# Altium schematic symbol library Eink_Smartwatch.SchLib: 27 symbols
Pins are listed as number, name and electrical type; pins without a type are passive.

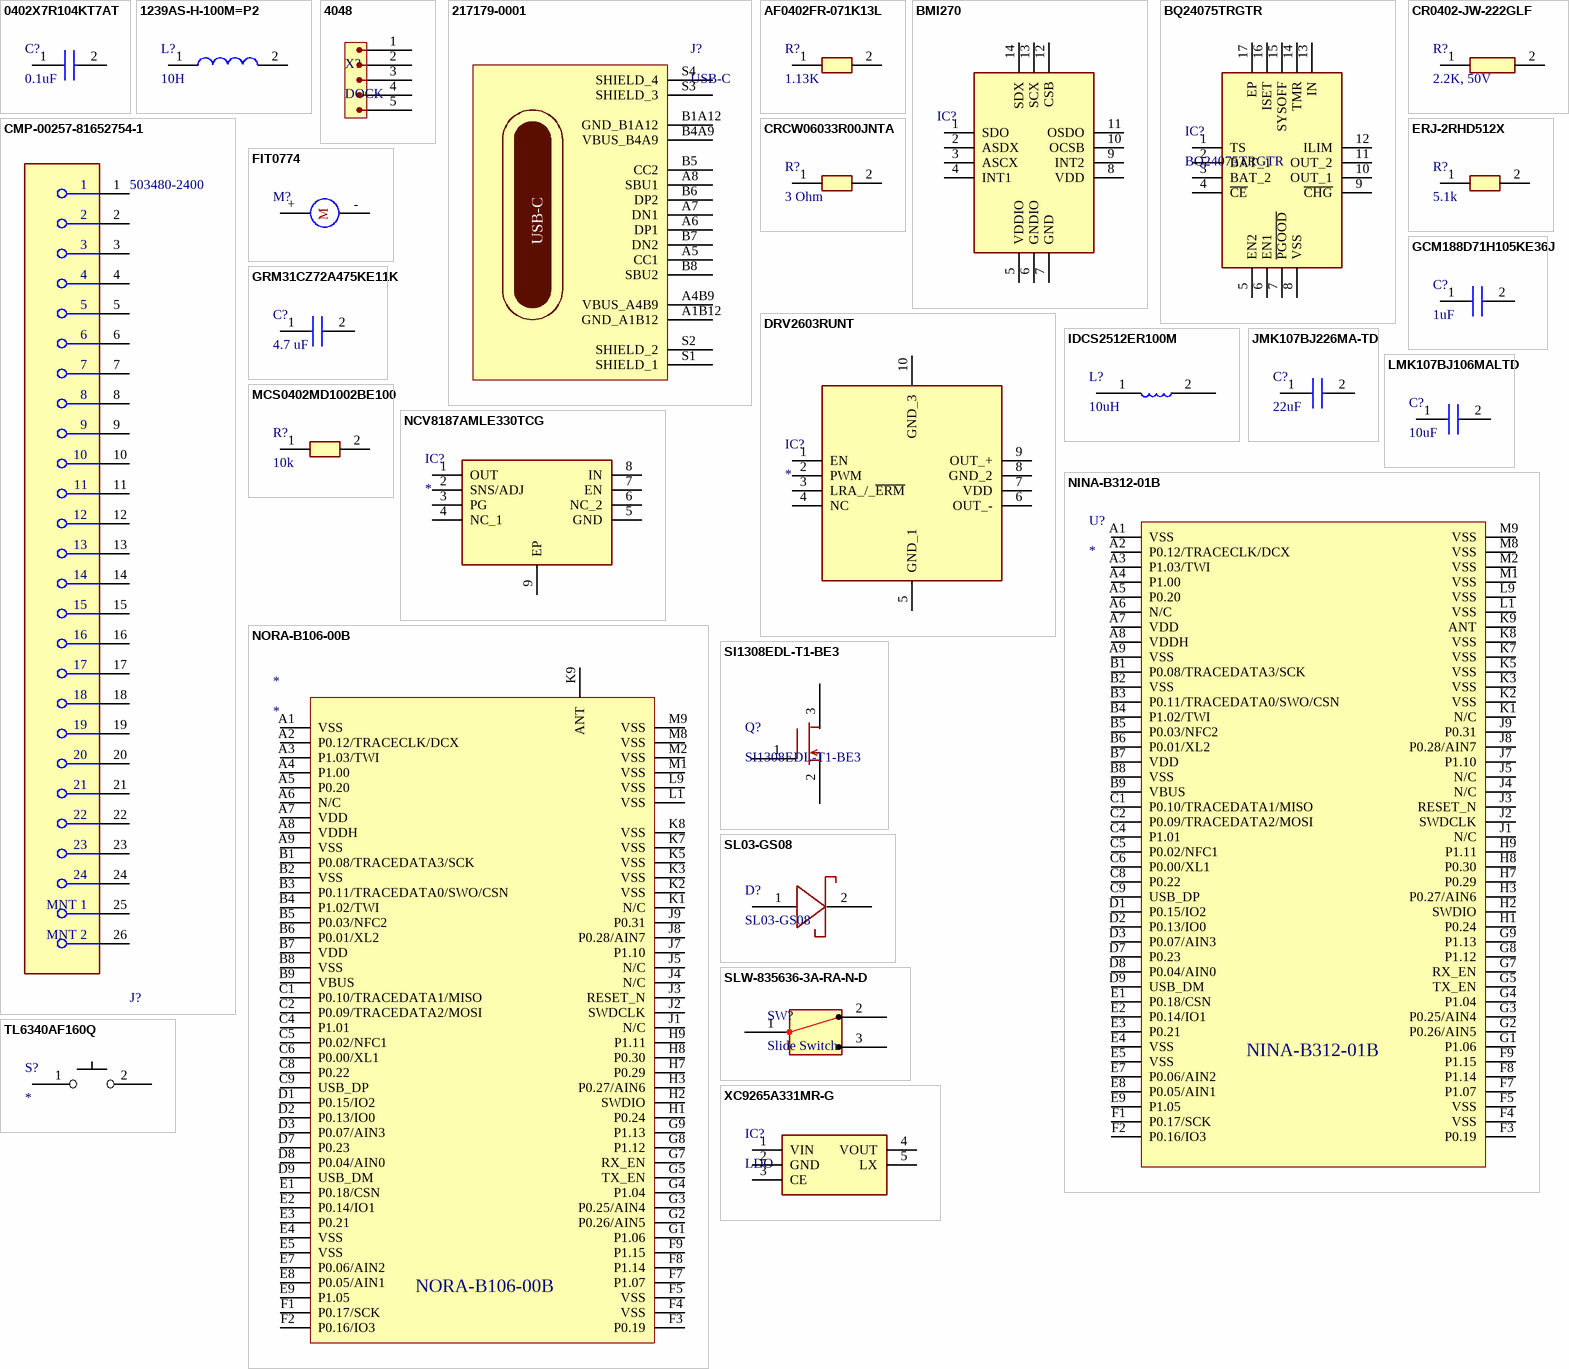
[diagram p0: symbols 0402X7R104KT7AT to XC9265A331MR-G]

## 0402X7R104KT7AT
designator C?, comment 0.1uF
Multilayer Ceramic Capacitors MLCC - SMD/SMT 16V 0.1uF X7R 10%; Manufacturer_Name: Kyocera AVX; Manufacturer_Part_Number: 0402X7R104KT7AT; Datasheet Link: https://www.mouser.es/datasheet/2/40/general_purpose-3169586.pdf; Height: 0.61mm; Mouser Part Number: 581-0402X7R104KT7AT; Mouser Price/Stock: https://www.mouser.co.uk/ProductDetail/KYOCERA-AVX/0402X7R104KT7AT?qs=DPoM0jnrROXD467pFR2ukA%3D%3D
footprint CAPC1005X61N
pins: 1, 2

## 1239AS-H-100M=P2
designator L?, comment 10H
Indutores de potência - SMD 10 UH 20%; Manufacturer_Name: Murata Electronics; Manufacturer_Part_Number: 1239AS-H-100M=P2; Datasheet Link: https://psearch.en.murata.com/inductor/product/1239AS-H-100M%23.html; Height: 1.2mm; Mouser Part Number: 81-1239AS-H-100MP2; Mouser Price/Stock: https://www.mouser.co.uk/ProductDetail/Murata-Electronics/1239AS-H-100M%3dP2?qs=KuGPmAKtFKWZyoO25uKvSg%3D%3D; Arrow Part Number: 1239AS-H-100M=P2; Arrow Price/Stock: https://www.arrow.com/en/products/1239as-h-100mp2/murata-manufacturing?region=nac
footprint DFE2HCAH1R0MJ0L
pins: 1, 2

## 4048
designator X?, comment DOCK
Mini SWD 0.05 Pitch Connector - 10 Pin SMT Box Header | Adafruit Industries 4048; Manufacturer Part Number: 4048; Supplier: Mouser; Supplier Part Number: 485-4048; Manufacturer: Adafruit Industries; RoHS: No; Category: Connectors; Stock: 723; Pricing: 1=1,95, 10=1,95, 50=1,95, 100=1,95, 1000=1,95, 10000=1,95 (USD); ComponentLink1URL: https://media.digikey.com/pdf/Data%20Sheets/Adafruit%20PDFs/4048_Web.pdf?src-supplier=Digikey; ComponentLink1Description: https://media.digikey.com/pdf/Data%20Sheets/Adafruit%20PDFs/4048_Web.pdf?src-supplier=Digikey
pins: 1, 2, 3, 4, 5

## 217179-0001
designator J?, comment USB-C
USB Connector, 16 Contact(s), Female, Right Angle, Surface Mount Terminal, Locking, Receptacle; Manufacturer: Molex; Manufacturer Part Number: 217179-0001; Supplier: Mouser; Supplier Part Number: 538-217179-0001; RoHS: No; Category: USB Connectors; Stock: 4841; Pricing: 1=0,9, 10=0,745, 50=0,745, 100=0,622, 1000=0,622, 10000=0,446 (USD)
pins: A1B12 GND_A1B12, A4B9 VBUS_A4B9, A5 CC1, A6 DP1, A7 DN1, A8 SBU1, B1A12 GND_B1A12, B4A9 VBUS_B4A9, B5 CC2, B6 DP2, B7 DN2, B8 SBU2, S1 SHIELD_1, S2 SHIELD_2, S3 SHIELD_3, S4 SHIELD_4

## AF0402FR-071K13L
designator R?, comment 1.13K
Fixed Resistor, Metal Glaze/thick Film, 0.0625W, 1130ohm, 50V, 1% +/-Tol, 100ppm/Cel, Surface Mount, 0402; Manufacturer: Yageo; Manufacturer Part Number: AF0402FR-071K13L; Additional Feature: ANTI-SULFUR; Power: 62.5mW; Rated Temperature: 70°C; Value: 1.13kR; Temperature Coefficient: 100ppm/°C; Package Height: 0.32mm; Package Length: 1mm; Package Width: 0.5mm; Reference Standard: AEC-Q200; Supplier: Mouser; Supplier Part Number: 603-AF0402FR-071K13L; RoHS: Yes; Category: Chip SMD Resistors; Stock: 3100; Pricing: 1=0,15, 10=0,037, 50=0,037, 100=0,02, 1000=0,012, 10000=0,006 (USD); Mounting Technology: Surface Mount; Pins: 2; Case/Package: 0402; Min Operating Temperature: -55°C; Max Operating Temperature: 155°C; Tolerance: 1%; Resistor Type: FIXED RESISTOR; Construction: Rectangular; Package Style: SMTMeter; Packaging: Tape and Reel; Termination: Wraparound; Working Voltage: 50V; Reach SVHC Compliant: Yes; RoHS Compliant: Yes; ComponentLink1URL: https://datasheet.ciiva.com:443/pdfs/VipMasterIC/IC/YAGO/YAGO-S-A0009016998/YAGO-S-A0009016998-1.pdf?src-supplier=IHS+Markit; ComponentLink1Description: https://datasheet.ciiva.com:443/pdfs/VipMasterIC/IC/YAGO/YAGO-S-A0009016998/YAGO-S-A0009016998-1.pdf?src-supplier=IHS+Markit; ComponentLink2URL: https://www.yageo.com/upload/media/product/productsearch/datasheet/rchip/PYu-AF_51_RoHS_L_6.pdf?src-supplier=Digikey; ComponentLink2Description: https://www.yageo.com/upload/media/product/productsearch/datasheet/rchip/PYu-AF_51_RoHS_L_6.pdf?src-supplier=Digikey
pins: 1, 2

## BMI270
designator IC?, comment IMU  (value not drawn)
IMUs - Inertial Measurement Units Smart Ultra-Low Power Inertial Measurement Unit (IMU) for Wearable Applications; Manufacturer_Name: BOSCH; Manufacturer_Part_Number: BMI270; Datasheet Link: https://www.bosch-sensortec.com/media/boschsensortec/downloads/datasheets/bst-bmi270-ds000.pdf; Height: 0.87mm; Mouser Part Number: 262-BMI270; Mouser Price/Stock: https://www.mouser.co.uk/ProductDetail/Bosch-Sensortec/BMI270?qs=u16ybLDytRYIj%252BjQEee88A%3D%3D; Arrow Part Number: BMI270; Arrow Price/Stock: https://www.arrow.com/en/products/bmi270/bosch?utm_currency=USD&region=nac
footprint BMI270
pins: 1 SDO, 2 ASDX, 3 ASCX, 4 INT1, 5 VDDIO, 6 GNDIO, 7 GND, 8 VDD, 9 INT2, 10 OCSB, 11 OSDO, 12 CSB, 13 SCX, 14 SDX

## BQ24075TRGTR
designator IC?
Gerenciadores de bateria 1.5A USB-Friendly Li Ion Batt Charger; Manufacturer_Name: Texas Instruments; Datasheet Link: http://componentsearchengine.com/Datasheets/1/BQ24075TRGTR.pdf; Height: 1mm; Manufacturer_Part_Number: BQ24075TRGTR; Mouser Part Number: 595-BQ24075TRGTR; Mouser Price/Stock: https://www.mouser.co.uk/ProductDetail/Texas-Instruments/BQ24075TRGTR?qs=%2Fqzd9s%252BcLd4uxZAT5jNskQ%3D%3D; Arrow Part Number: BQ24075TRGTR; Arrow Price/Stock: https://www.arrow.com/en/products/bq24075trgtr/texas-instruments?region=nac
footprint QFN50P300X300X100-17N-D
pins: 1 TS, 2 BAT_1, 3 BAT_2, 4 ~{CE}, 5 EN2, 6 EN1, 7 ~{PGOOD}, 8 VSS, 9 ~{CHG}, 10 OUT_1, 11 OUT_2, 12 ILIM, 13 IN, 14 TMR, 15 SYSOFF, 16 ISET, 17 EP

## CMP-00257-81652754-1
designator J?, comment 503480-2400
503480-2400 Molex 503480-2400 FFC & FPC Connectors, 0.5mm, FPC Ra Smt Dual Cont 24 Circuit,; Manufacturer Lifecycle Status: ACTIVE; NexarPartId: 81652754; Number of Contacts: 24; Voltage Rating: 50V; Plating: Gold; Current Rating: 500mA; Contact Plating: Gold; Mount: Surface Mount; Country of Origin: KR; Number of Rows: 1; Orientation: Right Angle; Lifecycle Status: Production; RoHS: Compliant; Min Operating Temperature: -40°C; Contact Material: Gold, Nickel; Max Operating Temperature: 85°C; Height: 2.07mm; Number of Circuits: 24
footprint FP-503480-2400-MFG
pins: 1, 2, 3, 4, 5, 6, 7, 8, 9, 10, 11, 12, 13, 14, 15, 16, 17, 18, 19, 20, 21, 22, 23, 24, 25 MNT 1, 26 MNT 2

## CR0402-JW-222GLF
designator R?, comment 2.2K, 50V
Thick Film Resistors - SMD 2.2K OHM 5%; Manufacturer_Name: Bourns; Manufacturer_Part_Number: CR0402-JW-222GLF; Datasheet Link: https://www.bourns.com/pdfs/CR0402.pdf; Height: 0.4mm; Mouser Part Number: 652-CR0402JW-222GLF; Mouser Price/Stock: https://www.mouser.co.uk/ProductDetail/Bourns/CR0402-JW-222GLF?qs=K5ddiUFZPT6h6bTSWuaUNg%3D%3D; Arrow Part Number: CR0402-JW-222GLF; Arrow Price/Stock: https://www.arrow.com/en/products/cr0402-jw-222glf/bourns?region=nac
footprint RESC1005X40N
pins: 1, 2

## CRCW06033R00JNTA
designator R?, comment 3 Ohm
Fixed Resistor, Metal Glaze/thick Film, 0.1W, 3ohm, 75V, 5% +/-Tol, 200ppm/Cel, Surface Mount, 0603; Manufacturer: Vishay Dale; Manufacturer Part Number: CRCW06033R00JNTA; Manufacturer Series: CRCW; Power: 100mW; Rated Temperature: 70°C; Value: 3R; Temperature Coefficient: 200ppm/°C; Package Height: 0.45mm; Package Length: 1.55mm; Package Width: 0.85mm; Reference Standard: AEC-Q200; Supplier: Mouser; Supplier Part Number: 71-CRCW0603J-3; RoHS: No; Category: Chip SMD Resistors; Stock: 24685; Pricing: 1=0,16, 10=0,111, 50=0,111, 100=0,042, 1000=0,018, 10000=0,013 (USD); Mounting Technology: Surface Mount; Pins: 2; Package Shape: Rectangular; Case/Package: 0603; Terminal Finish: Nickel; Min Operating Temperature: -55°C; Max Operating Temperature: 155°C; Tolerance: 5%; JESD-609 Code: e0; Resistor Type: FIXED RESISTOR; Construction: Chip; Package Style: SMTMeter; Packaging: Tape and Reel; Series: D/CRCW; Technology: METAL GLAZE/THICK FILM; Termination: Wraparound; Working Voltage: 75V; RoHS Compliant: No; Reach SVHC Compliant: No; ComponentLink1URL: https://datasheet.ciiva.com:443/pdfs/VipMasterIC/IC/VISH/VISH-S-A0002183699/VISH-S-A0002183699-1.pdf?src-supplier=IHS+Markit; ComponentLink1Description: https://datasheet.ciiva.com:443/pdfs/VipMasterIC/IC/VISH/VISH-S-A0002183699/VISH-S-A0002183699-1.pdf?src-supplier=IHS+Markit; ComponentLink2URL: https://datasheet.ciiva.com/2563/dcrcw-2563882.pdf?src-supplier=Digikey; ComponentLink2Description: https://datasheet.ciiva.com/2563/dcrcw-2563882.pdf?src-supplier=Digikey; ComponentLink3URL: https://datasheet.ciiva.com/9082/dcrcw-9082586.pdf?src-supplier=Avnet; ComponentLink3Description: https://datasheet.ciiva.com/9082/dcrcw-9082586.pdf?src-supplier=Avnet
pins: 1, 2

## DRV2603RUNT
designator IC?
Motor / Motion / Ignition Controllers & Drivers Haptic Driver w/Auto Resonance Tracking; Manufacturer_Name: Texas Instruments; Manufacturer_Part_Number: DRV2603RUNT; Datasheet Link: http://www.ti.com/lit/ds/symlink/drv2603.pdf; Height: 0.8mm; Mouser Part Number: 595-DRV2603RUNT; Mouser Price/Stock: https://www.mouser.co.uk/ProductDetail/Texas-Instruments/DRV2603RUNT?qs=y0LsnOHuQQ66fXxKAgGo4A%3D%3D; Arrow Part Number: DRV2603RUNT; Arrow Price/Stock: https://www.arrow.com/en/products/drv2603runt/texas-instruments
footprint QFN50P200X200X80-10N-D
pins: 1 EN, 2 PWM, 3 LRA_/_~{ERM}, 4 NC, 5 GND_1, 6 OUT_-, 7 VDD, 8 GND_2, 9 OUT_+, 10 GND_3

## ERJ-2RHD512X
designator R?, comment 5.1k
Fixed Resistor, Metal Glaze/thick Film, 0.063W, 5110ohm, 50V, 0.5% +/-Tol, 50ppm/Cel, Surface Mount, 0402; Manufacturer: Panasonic; Manufacturer Part Number: ERJ-2RHD512X; Manufacturer Series: ERJ2R; Power: 63mW; Rated Temperature: 70°C; Value: 5.11kR; Temperature Coefficient: 50ppm/°C; Supplier: Mouser; Supplier Part Number: 667-ERJ-2RHD512X; RoHS: Yes; Stock: 18329; Pricing: 1=0,13, 10=0,11, 50=0,11, 100=0,043, 1000=0,019, 10000=0,019 (USD); Mounting Technology: Surface Mount; Pins: 2; Package Shape: Rectangular; Case/Package: 0402; Terminal Finish: Tin; Min Operating Temperature: -55°C; Max Operating Temperature: 125°C; Tolerance: 0.5%; JESD-609 Code: e3; Resistor Type: FIXED RESISTOR; Packaging: Tape and Reel; Technology: METAL GLAZE/THICK FILM; Termination: Wraparound; Working Voltage: 50V; Reach SVHC Compliant: Yes; RoHS Compliant: Yes; ComponentLink1URL: https://datasheet.ciiva.com:443/pdfs/VipMasterCap/Capacitor/PANA/PANAS11022/PANAS11022-1.pdf?src-supplier=IHS+Markit; ComponentLink1Description: https://datasheet.ciiva.com:443/pdfs/VipMasterCap/Capacitor/PANA/PANAS11022/PANAS11022-1.pdf?src-supplier=IHS+Markit; ComponentLink2URL: https://datasheet.ciiva.com/24037/aoa0000ce2-24037669.pdf?src-supplier=Mouser; ComponentLink2Description: https://datasheet.ciiva.com/24037/aoa0000ce2-24037669.pdf?src-supplier=Mouser
pins: 1, 2

## FIT0774
designator M?
Mini Vibration Motor (10*2.7MM); Manufacturer: DFRobot; Manufacturer Part Number: FIT0774; Supplier: Mouser; Supplier Part Number: 426-FIT0774; RoHS: No; Category: Motors and Drives; Stock: 3316; Pricing: 1=0,99, 10=0,99, 50=0,99, 100=0,99, 1000=0,99, 10000=0,99 (USD)
pins: + 2, - 1
text: M

## GCM188D71H105KE36J
designator C?, comment 1uF
Capacitores de cerâmica multicamada MLCC - SMD/SMT 0603 50VDC X7T 1uF 10% AEC-Q200; Manufacturer: Murata; Manufacturer Part Number: GCM188D71H105KE36J; Supplier: Mouser; Supplier Part Number: 81-GCM188D71H105KE6J; RoHS: No; Category: Ceramic Capacitors; Stock: 8350; Pricing: 1=0,25, 10=0,101, 50=0,101, 100=0,059, 1000=0,051, 10000=0,039 (USD)
pins: 1, 2

## GRM31CZ72A475KE11K
designator C?, comment 4.7 uF
Capacitores de cerâmica multicamada MLCC - SMD/SMT 4.7 uF 100 VDC 10% 1206 X7R; Manufacturer_Name: Murata Electronics; Manufacturer_Part_Number: GRM31CZ72A475KE11K; Datasheet Link: https://search.murata.co.jp/Ceramy/image/img/A01X/G101/ENG/GRM31CZ72A475KE11-01A.pdf; Height: 1.15mm; Mouser Part Number: 81-GRM31CZ72A475K11K; Mouser Price/Stock: https://www.mouser.co.uk/ProductDetail/Murata-Electronics/GRM31CZ72A475KE11K?qs=d0WKAl%252BL4KZ8%252BL6wtNbppg%3D%3D
footprint GRM31x
pins: 1, 2

## IDCS2512ER100M
designator L?, comment 10uH
General Purpose Inductor, 10uH, 20%, 1 Element, Ferrite-Core, SMD, 2618; Manufacturer: Vishay Dale; Manufacturer Part Number: IDCS2512ER100M; Case/Size Code: 2618; DC Resistance (DCR): 75mR; Inductor Application: HIGH CURRENT INDUCTOR; Channels: 1; Max Current Rating: 1A; Shape/Size Description: RECTANGULAR PACKAGE; Shielding: Shielded; Test Frequency: 100kHz; Package Height: 2.92mm; Package Length: 6.6mm; Package Width: 4.45mm; Supplier: Mouser; Supplier Part Number: 70-IDCS2512ER100M; RoHS: Yes; Category: Fixed Inductors; Stock: 1073; Pricing: 1=1,24, 10=1,06, 50=1,06, 100=0,749, 1000=0,595, 10000=0,537 (USD); Pins: 2; Core Material: Ferrite; Terminal Finish: Nickel; Min Operating Temperature: -40°C; Max Operating Temperature: 125°C; Tolerance: 20%; JESD-609 Code: e4; Construction: Magnetically Shielded; Inductance-Nom (L): 10uH; Inductor Type: GENERAL PURPOSE INDUCTOR; Package Style: SMTMeter; Packaging: Tape and Reel; Surface Mount: Yes; Terminal Placement: Dual Ended; Termination: One Surface; Reach SVHC Compliant: Yes; RoHS Compliant: Yes; ComponentLink1URL: https://datasheet.ciiva.com:443/pdfs/VipMasterIC/IC/VISH/VISH-S-A0003083825/VISH-S-A0003083825-1.pdf?src-supplier=IHS+Markit; ComponentLink1Description: https://datasheet.ciiva.com:443/pdfs/VipMasterIC/IC/VISH/VISH-S-A0003083825/VISH-S-A0003083825-1.pdf?src-supplier=IHS+Markit; ComponentLink2URL: https://datasheet.ciiva.com/13283/idcs2512-73198-13283072.pdf?src-supplier=Mouser; ComponentLink2Description: https://datasheet.ciiva.com/13283/idcs2512-73198-13283072.pdf?src-supplier=Mouser; ComponentLink3URL: https://datasheet.ciiva.com/1074/idcs2512-1074163.pdf?src-supplier=Digikey; ComponentLink3Description: https://datasheet.ciiva.com/1074/idcs2512-1074163.pdf?src-supplier=Digikey
pins: 1, 2

## JMK107BJ226MA-TD
designator C?, comment 22uF
Capacitores de cerâmica multicamada MLCC - SMD/SMT 6.3V 22uF X5R 0603 20 %; Manufacturer_Name: TAIYO YUDEN; Manufacturer_Part_Number: JMK107BJ226MA-TD; Datasheet Link: https://ds.yuden.co.jp/TYCOMPAS/ut/download?pn=LMK063BBJ474MPLF&fileType=CA; Height: 0.9mm; Mouser Part Number: 963-JMK107BJ226MA-TD; Mouser Price/Stock: https://www.mouser.co.uk/ProductDetail/Taiyo-Yuden/JMK107BJ226MA-TD?qs=lkMpTOwszhdNQzwHcFE2kQ%3D%3D
footprint CAPC1608X90N
pins: 1, 2

## LMK107BJ106MALTD
designator C?, comment 10uF
Capacitores de cerâmica multicamada MLCC - SMD/SMT 10V 10uF X5R 0603 20 %; Manufacturer_Name: TAIYO YUDEN; Manufacturer_Part_Number: LMK107BJ106MALTD; Datasheet Link: https://ds.yuden.co.jp/TYCOMPAS/ut/download?pn=LMK063BBJ474MPLF&fileType=CA; Height: 0.9mm; Mouser Part Number: 963-LMK107BJ106MALTD; Mouser Price/Stock: https://www.mouser.co.uk/ProductDetail/TAIYO-YUDEN/LMK107BJ106MALTD?qs=PzICbMaShUde1djJr8Be9g%3D%3D; Arrow Part Number: LMK107BJ106MALTD; Arrow Price/Stock: https://www.arrow.com/en/products/lmk107bj106maltd/taiyo-yuden
footprint CAPC1608X90N
pins: 1, 2

## MCS0402MD1002BE100
designator R?, comment 10k
Resistores de Filme Fino - SMD .063W 10Kohms 0.1% 0402 25ppm Auto; Manufacturer_Name: Vishay; Manufacturer_Part_Number: MCS0402MD1002BE100; Datasheet Link: http://www.vishay.com/docs/28705/mcx0x0xpro.pdf; Height: 0.37mm; Mouser Part Number: 594-MCS0402MD1002BE1; Mouser Price/Stock: https://www.mouser.co.uk/ProductDetail/Vishay-Beyschlag/MCS0402MD1002BE100?qs=3SvaY9RawMIFge2HspqWnA%3D%3D; Arrow Part Number: MCS0402MD1002BE100; Arrow Price/Stock: https://www.arrow.com/en/products/mcs0402md1002be100/vishay?region=nac
footprint RESC1005X37N
pins: 1, 2

## NCV8187AMLE330TCG
designator IC?
LDO Voltage Regulators 1.2A LDO Regulator, Low Dropout Voltage, Low Noise with Power Good Output flipped die, 3V3, active discharge; Manufacturer_Name: onsemi; Manufacturer_Part_Number: NCV8187AMLE330TCG; Datasheet Link: https://www.onsemi.com/pdf/datasheet/ncv8187-d.pdf; Height: 1mm; Mouser Part Number: 863-CV8187AMLE330TCG; Mouser Price/Stock: https://www.mouser.co.uk/ProductDetail/onsemi/NCV8187AMLE330TCG?qs=HBWAp0VN4RhK8HbhfCLXcQ%3D%3D; Arrow Part Number: NCV8187AMLE330TCG; Arrow Price/Stock: https://www.arrow.com/en/products/ncv8187amle330tcg/on-semiconductor?region=nac
footprint SON65P300X300X100-9N-D
pins: 1 OUT, 2 SNS/ADJ, 3 PG, 4 NC_1, 5 GND, 6 NC_2, 7 EN, 8 IN, 9 EP

## NINA-B312-01B
designator U?
NINA-B30 Series 3.6 V -100 dBm Stand-Alone Bluetooth 5 Low Energy Module; Manufacturer: u-blox; Manufacturer Part Number: NINA-B312-01B; Supplier: Mouser; Supplier Part Number: 377-NINA-B312-01B; RoHS: No; Stock: 948; Pricing: 1=15,78, 10=14,2, 50=12,79, 100=11,51, 1000=11,51, 10000=11,51 (USD)
pins: A1 VSS, A2 P0.12/TRACECLK/DCX, A3 P1.03/TWI, A4 P1.00, A5 P0.20, A6 N/C, A7 VDD, A8 VDDH, A9 VSS, B1 P0.08/TRACEDATA3/SCK, B2 VSS, B3 P0.11/TRACEDATA0/SWO/CSN, B4 P1.02/TWI, B5 P0.03/NFC2, B6 P0.01/XL2, B7 VDD, B8 VSS, B9 VBUS, C1 P0.10/TRACEDATA1/MISO, C2 P0.09/TRACEDATA2/MOSI, C4 P1.01, C5 P0.02/NFC1, C6 P0.00/XL1, C8 P0.22, C9 USB_DP, D1 P0.15/IO2, D2 P0.13/IO0, D3 P0.07/AIN3, D7 P0.23, D8 P0.04/AIN0, D9 USB_DM, E1 P0.18/CSN, E2 P0.14/IO1, E3 P0.21, E4 VSS, E5 VSS, E7 P0.06/AIN2, E8 P0.05/AIN1, E9 P1.05, F1 P0.17/SCK, F2 P0.16/IO3, F3 P0.19, F4 VSS, F5 VSS, F7 P1.07, F8 P1.14, F9 P1.15, G1 P1.06, G2 P0.26/AIN5, G3 P0.25/AIN4, G4 P1.04, G5 TX_EN, G7 RX_EN, G8 P1.12, G9 P1.13, H1 P0.24, H2 SWDIO, H3 P0.27/AIN6, H7 P0.29, H8 P0.30, H9 P1.11, J1 N/C, J2 SWDCLK, J3 RESET_N, J4 N/C, J5 N/C, J7 P1.10, J8 P0.28/AIN7, J9 P0.31, K1 N/C, K2 VSS, K3 VSS, K5 VSS, K7 VSS, K8 VSS, K9 ANT, L1 VSS, L9 VSS, M1 VSS, M2 VSS, M8 VSS, M9 VSS

## NORA-B106-00B
designator *
Bluetooth Modules - 802.15.1 nRF5340, PCB antenna, open CPU; Manufacturer: u-blox; Manufacturer Part Number: NORA-B106-00B; Supplier: Mouser; Supplier Part Number: 377-NORA-B106-00B; RoHS: No; Category: LDO; Stock: 4440; Pricing: 1=14, 10=12,74, 50=11,72, 100=10,9, 1000=10,9, 10000=10,9 (USD); ComponentLink1URL: https://datasheet.octopart.com/NORA-B106-00B-u-blox-datasheet-166811452.pdf?src-supplier=TME; ComponentLink1Description: https://datasheet.octopart.com/NORA-B106-00B-u-blox-datasheet-166811452.pdf?src-supplier=TME
pins: A1 VSS, A2 P0.12/TRACECLK/DCX, A3 P1.03/TWI, A4 P1.00, A5 P0.20, A6 N/C, A7 VDD, A8 VDDH, A9 VSS, B1 P0.08/TRACEDATA3/SCK, B2 VSS, B3 P0.11/TRACEDATA0/SWO/CSN, B4 P1.02/TWI, B5 P0.03/NFC2, B6 P0.01/XL2, B7 VDD, B8 VSS, B9 VBUS, C1 P0.10/TRACEDATA1/MISO, C2 P0.09/TRACEDATA2/MOSI, C4 P1.01, C5 P0.02/NFC1, C6 P0.00/XL1, C8 P0.22, C9 USB_DP, D1 P0.15/IO2, D2 P0.13/IO0, D3 P0.07/AIN3, D7 P0.23, D8 P0.04/AIN0, D9 USB_DM, E1 P0.18/CSN, E2 P0.14/IO1, E3 P0.21, E4 VSS, E5 VSS, E7 P0.06/AIN2, E8 P0.05/AIN1, E9 P1.05, F1 P0.17/SCK, F2 P0.16/IO3, F3 P0.19, F4 VSS, F5 VSS, F7 P1.07, F8 P1.14, F9 P1.15, G1 P1.06, G2 P0.26/AIN5, G3 P0.25/AIN4, G4 P1.04, G5 TX_EN, G7 RX_EN, G8 P1.12, G9 P1.13, H1 P0.24, H2 SWDIO, H3 P0.27/AIN6, H7 P0.29, H8 P0.30, H9 P1.11, J1 N/C, J2 SWDCLK, J3 RESET_N, J4 N/C, J5 N/C, J7 P1.10, J8 P0.28/AIN7, J9 P0.31, K1 N/C, K2 VSS, K3 VSS, K5 VSS, K7 VSS, K8 VSS, K9 ANT, L1 VSS, L9 VSS, M1 VSS, M2 VSS, M8 VSS, M9 VSS

## SI1308EDL-T1-BE3
designator Q?
Transistor MOSFET N-Channel 30V 1.4A 3-Pin SOT-323; Manufacturer: Vishay; Supplier: Mouser; Supplier Part Number: 78-SI1308EDL-T1-BE3; Manufacturer Part Number: SI1308EDL-T1-BE3; RoHS: No; Stock: 79433; Pricing: 1=0,4, 10=0,276, 50=0,276, 100=0,172, 1000=0,129, 10000=0,098 (USD); ComponentLink1URL: https://datasheet.octopart.com/SI1308EDL-T1-BE3-Vishay-datasheet-151651462.pdf?src-supplier=Future+Electronics; ComponentLink1Description: https://datasheet.octopart.com/SI1308EDL-T1-BE3-Vishay-datasheet-151651462.pdf?src-supplier=Future+Electronics
pins: 1, 2, 3

## SL03-GS08
designator D?
Rectifier Diode, Schottky, 1 Phase, 1 Element, 1.1A, 30V V(RRM), Silicon, DO-219AB; Manufacturer: Vishay Semiconductors; Package Body Material: Plastic; Application(s): EFFICIENCY; Forward Voltage: 430mV; Non-rep Pk Forward Current-Max: 40A; Number of Elements: 1; Qualification Status: Not Qualified; Supplier: Mouser; Supplier Part Number: 625-SL03; Manufacturer Part Number: SL03-GS08; RoHS: Yes; Category: Rectifier Diodes; Stock: 88607; Pricing: 1=0,41, 10=0,274, 50=0,339, 100=0,185, 500=0,144, 1000=0,13, 3000=0,099, 9000=0,089, 10000=0,092, 24000=0,087 (USD); Pins: 2; Diode Element Material: SILICON; Package Shape: Rectangular; Terminal Finish: Tin; Max Operating Temperature: 125°C; JESD-609 Code: e3; Diode Type: RECTIFIER; JESD-30 Code: R-PDSO-F2; Moisture Sensitivity Level: 1; Number of Phases: 1; Max Output current: 1.1A; Package Style: SMALL OUTLINEMeter; Rep Pk Reverse Voltage-Max: 30V; Surface Mount: Yes; Technology: SCHOTTKY; Terminal Form: Flat; Terminal Position: DUAL; JEDEC-95 Code: DO-219AB; RoHS Compliant: Yes; Reach SVHC Compliant: No; ComponentLink1URL: https://datasheet.ciiva.com:443/pdfs/VipMasterIC/IC/VISH/VISH-S-A0009169378/VISH-S-A0009169378-1.pdf?src-supplier=IHS+Markit; ComponentLink1Description: https://datasheet.ciiva.com:443/pdfs/VipMasterIC/IC/VISH/VISH-S-A0009169378/VISH-S-A0009169378-1.pdf?src-supplier=IHS+Markit; ComponentLink2URL: https://datasheet.ciiva.com/910/sl02-03-04-910861.pdf?src-supplier=Digikey; ComponentLink2Description: https://datasheet.ciiva.com/910/sl02-03-04-910861.pdf?src-supplier=Digikey; ComponentLink3URL: https://datasheet.ciiva.com/910/sl02-910862.pdf?src-supplier=Digikey; ComponentLink3Description: https://datasheet.ciiva.com/910/sl02-910862.pdf?src-supplier=Digikey; ComponentLink4URL: https://datasheet.ciiva.com/910/sl02-910863.pdf?src-supplier=Digikey; ComponentLink4Description: https://datasheet.ciiva.com/910/sl02-910863.pdf?src-supplier=Digikey; ComponentLink5URL: https://datasheet.ciiva.com/8290/sl02-8290522.pdf?src-supplier=Avnet; ComponentLink5Description: https://datasheet.ciiva.com/8290/sl02-8290522.pdf?src-supplier=Avnet; ComponentLink6URL: https://datasheet.ciiva.com/16486/sl02-16486940.pdf?src-supplier=Future+Electronics; ComponentLink6Description: https://datasheet.ciiva.com/16486/sl02-16486940.pdf?src-supplier=Future+Electronics
pins: 1, 2

## SLW-835636-3A-RA-N-D
designator SW?, comment Slide Switch
8.3 X 5.6 X 3.6 Mm, 3 Mm Raised; Manufacturer: CUI Devices; Manufacturer Part Number: SLW-835636-3A-RA-N-D; Supplier: Mouser; Supplier Part Number: 179-SLW8356363ARAND; RoHS: No; Category: LDO; Stock: 1000; Pricing: 1=0,41, 10=0,409, 50=0,409, 100=0,335, 1000=0,254, 10000=0,216 (USD)
pins: 1, 2, 3

## TL6340AF160Q
designator S?
Keypad Switch, 1 Switches, SPST, Momentary-tactile, 0.02A, 12VDC, 1.57N, 2 PCB Hole Cnt, Solder Terminal, Surface Mount-right Angle; Manufacturer: E-Switch; Manufacturer Part Number: TL6340AF160Q; Supplier: Mouser; Supplier Part Number: 612-TL6340AF160QG; RoHS: Yes; Category: Tactile Switches; Stock: 2006; Pricing: 1=0,51, 10=0,478, 50=0,478, 100=0,377, 1000=0,313, 10000=0,255 (USD); ComponentLink1URL: https://datasheet.octopart.com/TL6340AF160Q-E-Switch-datasheet-155697155.pdf?src-supplier=Future+Electronics; ComponentLink1Description: https://datasheet.octopart.com/TL6340AF160Q-E-Switch-datasheet-155697155.pdf?src-supplier=Future+Electronics; ComponentLink2URL: https://datasheet.octopart.com/TL6340AF160Q-E-Switch-datasheet-165860010.pdf?src-supplier=TME; ComponentLink2Description: https://datasheet.octopart.com/TL6340AF160Q-E-Switch-datasheet-165860010.pdf?src-supplier=TME
pins: 1, 2 1

## XC9265A331MR-G
designator IC?, comment LDO
Reguladores de tensão de comutação Ultra Low Power PFM DCDC Converter; Manufacturer_Name: Torex; Manufacturer_Part_Number: XC9265A331MR-G; Datasheet Link: https://www.torexsemi.com/file/xc9265/XC9265.pdf; Height: 1.3mm; Mouser Part Number: 865-XC9265A331MR-G; Mouser Price/Stock: https://www.mouser.co.uk/ProductDetail/Torex-Semiconductor/XC9265A331MR-G?qs=AsjdqWjXhJ9U1u7bKcUHSA%3D%3D
footprint SOT95P280X130-5N
pins: 1 VIN, 2 GND, 3 CE, 4 VOUT, 5 LX